# EAGLE library part SN74LVC4245A (library toyotune)
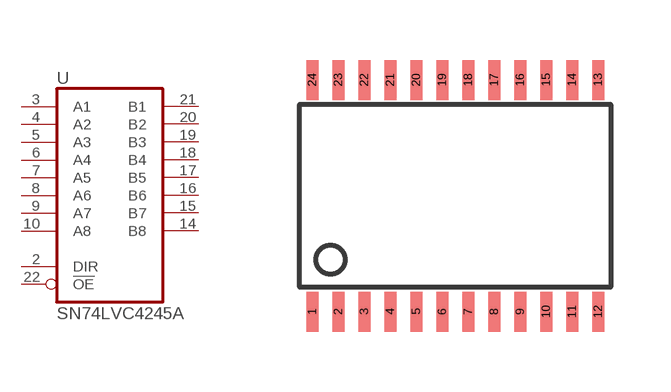
[diagram p14: symbol with the pads of TSSOP24; footprint TSSOP24]

Designator prefix -

## SN74LVC4245APW  [TSSOP24]
2  DIR  in
3  A1
4  A2
5  A3
6  A4
7  A5
8  A6
9  A7
10  A8
14  B8
15  B7
16  B6
17  B5
18  B4
19  B3
20  B2
21  B1
22  !OE  in

## Footprint TSSOP24 (pad centres in mm)
smd 0.3 x 1: 1 -3.55,-2.85; 2 -2.9,-2.85; 3 -2.25,-2.85; 4 -1.6,-2.85; 5 -0.95,-2.85; 6 -0.3,-2.85; 7 0.35,-2.85; 8 1,-2.85; 9 1.65,-2.85; 10 2.3,-2.85; 11 2.95,-2.85; 12 3.6,-2.85; 13 3.6,2.95; 14 2.95,2.95; 15 2.3,2.95; 16 1.65,2.95; 17 1,2.95; 18 0.35,2.95; 19 -0.3,2.95; 20 -0.95,2.95; 21 -1.6,2.95; 22 -2.25,2.95; 23 -2.9,2.95; 24 -3.55,2.95